# EAGLE library part MC33063A (library ICs)
MC33063A 1.5A Peak Boost/Buck/Inverting Switching Regulator
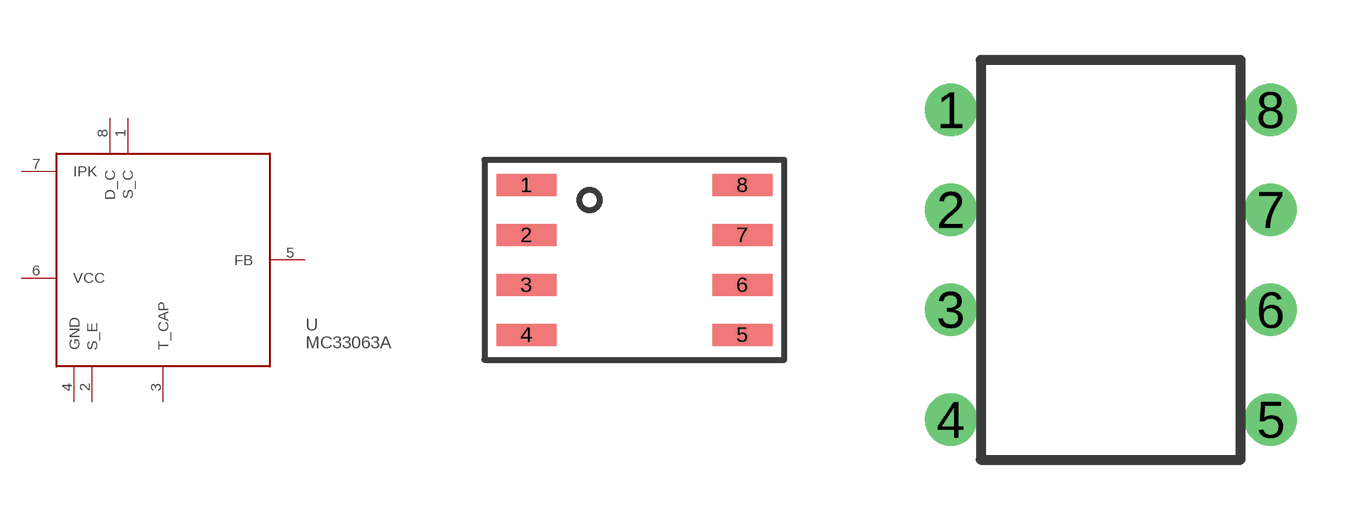
[diagram p56: symbol with the pads of SO8; footprints SO8, DIP8]

Designator prefix U

## MC33063A (FARNELL: 1053591; PRICE_PER: 0.2187; VALUE: MC33063AD)  [SO8]
1  S_C
2  S_E
3  T_CAP
4  GND
5  FB
6  VCC
7  IPK
8  D_C

## MC33063APE4 (FARNELL: 1053584; PRICE_PER: 0.529; VALUE: MC33063A)  [DIP8]
Pads as for SO8

## Footprint SO8 (pad centres in mm)
smd 1.5 x 0.55: 1 -2.7,1.875; 2 -2.7,0.625; 3 -2.7,-0.625; 4 -2.7,-1.875; 5 2.7,-1.875; 6 2.7,-0.625; 7 2.7,0.625; 8 2.7,1.875

## Footprint DIP8 (pad centres in mm)
drill 0.8: 1 -4,3.75; 2 -4,1.25; 3 -4,-1.25; 4 -4,-4; 5 4,-4; 6 4,-1.25; 7 4,1.25; 8 4,3.75